# Altium integrated library SDT5H100P5Lib.IntLib: 1 symbol
Pins are listed as number, name and electrical type; pins without a type are passive.

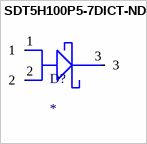
[diagram p0: symbol SDT5H100P5-7DICT-ND]

## SDT5H100P5-7DICT-ND
designator D?
footprint DIO_PDS360-13
pins: 1, 2, 3